# Altium footprint library Kilobot_Controller.PcbLib: 12 footprints
Each footprint in its own frame and in the unit in brackets; x right, y up, seen from the top. Pads: shape width x height; smd on the part's side, far side on the other; paste and mask are expansions set on the pad; w line width, h text height; cw(c..) or ccw(c..) is an arc to the next point about the centre after c.
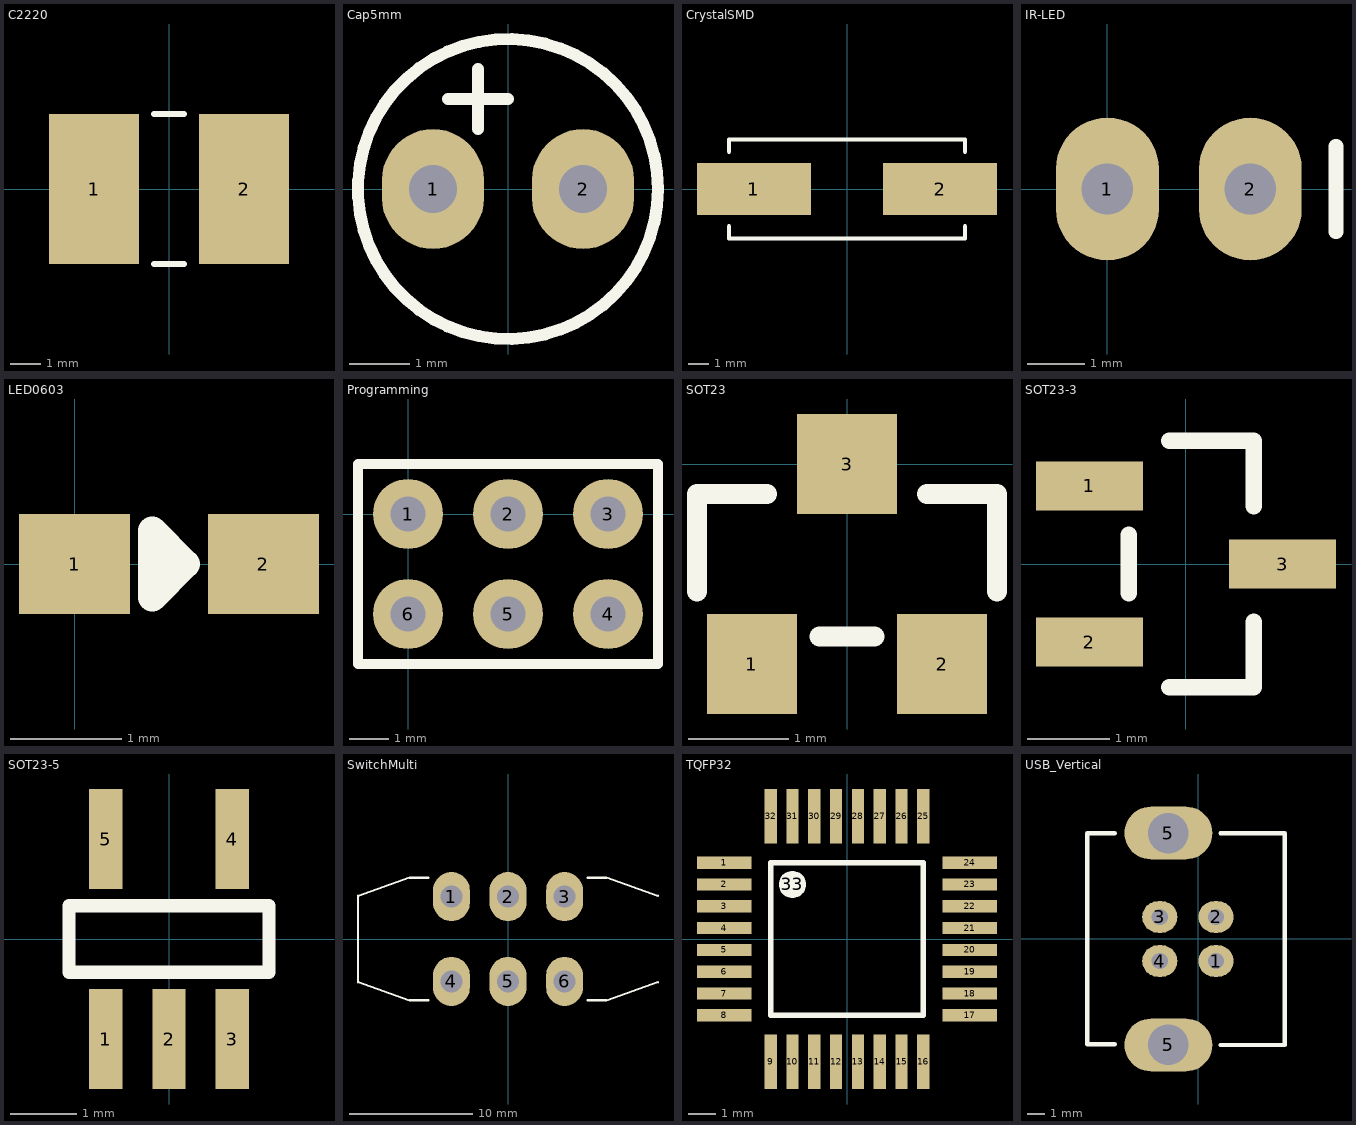
[diagram p0: the footprints below, top view; thin cyan lines are the x and y axes]

## C2220 [mm]
pads (2):
  rect 3x5 smd: 1(-2.5,0) 2(2.5,0)
Top Overlay:
  lines w0.2: -0.5,-2.5 0.5,-2.5 ; -0.5,2.5 0.5,2.5

## Cap5mm [mm]
pads (2):
  oval 1.7x2 hole 0.8: 1(-1.25,0) 2(1.25,0)
Top Overlay:
  circle w0.2: c0,0 r2.5
  lines w0.2: -1,1.5 0,1.5 ; -0.5,1 -0.5,2

## CrystalSMD [mm]
pads (2):
  rect 5.5x2.5 smd: 1(-4.5,0) 2(4.5,0)
Top Overlay:
  lines w0.2: -5.7,-1.8 -5.7,-2.4 0,-2.4 5.7,-2.4 5.7,-1.8 ; -5.7,1.8 -5.7,2.4 0,2.4 5.7,2.4 5.7,1.8

## IR-LED [mm]
pads (2):
  oval 1.8x2.5 hole 0.9: 1(0,0) 2(2.5,0)
Top Overlay:
  lines w0.254: 4,-0.75 4,0.75

## LED0603 [mm]
pads (2):
  rect 1x0.9 smd: 1(0,0) 2(1.7,0)
Top Overlay:
  lines w0.254: 0.7,-0.3 1,0 0.7,0.3 0.7,-0.3

## Programming [mil]
pads (6):
  round 70 hole 35: 1(0,0) 2(100,0) 3(200,0) 4(200,-100) 5(100,-100) 6(0,-100)
Top Overlay:
  lines w10: -50,-150 250,-150 250,50 -50,50 -50,-150

## SOT23 [mm]
pads (3):
  rect 0.9x1 smd: 1(-0.95,-2) 2(0.95,-2)
  rect 1x1 smd: 3(0,0)
Top Overlay:
  lines w0.2: -1.5,-1.275 -1.5,-0.3 -0.8,-0.3 ; -0.275,-1.725 0.275,-1.725 ; 0.8,-0.3 1.5,-0.3 1.5,-1.275

## SOT23-3 [mm]
pads (3):
  rect 1.3x0.6 smd: 1(-1.173,0.95) 2(-1.173,-0.95) 3(1.177,0)
Top Overlay:
  lines w0.2: -0.697,-0.357 -0.697,0.357 ; -0.2,-1.5 0.827,-1.5 0.827,-0.7 ; -0.2,1.5 0.827,1.5 0.827,0.7

## SOT23-5 [mm]
pads (5):
  rect 0.5x1.5 smd: 1(-0.95,-1.5) 2(0,-1.5) 3(0.95,-1.5) 4(0.95,1.5) 5(-0.95,1.5)
Top Overlay:
  lines w0.2: -1.5,-0.5 -1.5,0.5 1.5,0.5 1.5,-0.5 -1.5,-0.5

## SwitchMulti [mm]
pads (6):
  oval 3x4 hole 1.8: 1(-4.6,3.45) 2(0,3.45) 3(4.6,3.45) 4(-4.6,-3.45) 5(0,-3.45) 6(4.6,-3.45)
Top Overlay:
  lines w0.2: -6.5,-5 -8,-5 -12.2,-3.5 -12.2,-3.4 -12.2,3.5 -8,5 -6.5,5 ; 6.5,-5 8,-5 12.2,-3.5 ; 6.5,5 8,5 12.2,3.5

## TQFP32 [mm]
pads (33):
  rect 2x0.45 smd: 1(-4.5,2.8) 2(-4.5,2) 3(-4.5,1.2) 4(-4.5,0.4) 5(-4.5,-0.4) 6(-4.5,-1.2) 7(-4.5,-2) 8(-4.5,-2.8) 17(4.5,-2.8) 18(4.5,-2) 19(4.5,-1.2) 20(4.5,-0.4) 21(4.5,0.4) 22(4.5,1.2) 23(4.5,2) 24(4.5,2.8)
  rect 0.45x2 smd: 9(-2.8,-4.5) 10(-2,-4.5) 11(-1.2,-4.5) 12(-0.4,-4.5) 13(0.4,-4.5) 14(1.2,-4.5) 15(2,-4.5) 16(2.8,-4.5) 25(2.8,4.5) 26(2,4.5) 27(1.2,4.5) 28(0.4,4.5) 29(-0.4,4.5) 30(-1.2,4.5) 31(-2,4.5) 32(-2.8,4.5)
  round 1 on Top Overlay: 33(-2,2)
Top Overlay:
  lines w0.2: -2.8,-2.8 2.8,-2.8 2.8,2.8 -2.8,2.8 -2.8,-2.8

## USB_Vertical [mm]
pads (6):
  oval 2x1.8 hole 0.92: 1(1,-1.27) 2(1,1.23) 3(-2.2,1.23) 4(-2.2,-1.27)
  oval 5x3 hole 2.3: 5(-1.71,-6.04) 5(-1.71,6)
Top Overlay:
  lines w0.254: -4.75,-6 -6.31,-6 -6.31,6 -4.75,6 ; 1.25,-6.04 4.89,-6.04 4.89,6 1.25,6